# Altium integrated library PS1240P02BT.IntLib: 1 symbol
Pins are listed as number, name and electrical type; pins without a type are passive.

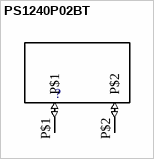
[diagram p0: symbol PS1240P02BT]

## PS1240P02BT
designator ?  (value not drawn)
/ Audio Buzzer Piezo 30Vo-p 3Vo-p 70dBA Pin Through Hole T/R /; MF: TDK; MP: PS1240P02BT; Price: None; Availability: Unavailable; Package: 2020 TDK; SnapEDA_Link: https://www.snapeda.com/parts/PS1240P02BT/TDK-Lambda%20Americas%20Inc/view-part/?ref=snap; Value: *
footprint *PS1240P02BT_PS1240P02BT(Primary)
pins: P$1 (io), P$2 (io)